# Altium schematic symbol library 2019-05-13_15-35-56.SchLib: 2 symbols
Pins are listed as number, name and electrical type; pins without a type are passive.

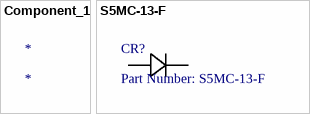
[diagram p0: symbols Component_1 to S5MC-13-F]

## Component_1
designator *

## S5MC-13-F
designator CR?, comment Part Number: S5MC-13-F
No Description Available; Vendor: Diodes Inc; Built_By: EMA_UL_Team; Type: DEV; Manufacturer_Part_Number: S5MC-13-F; Copyright: Copyright (C) 2018 Accelerated Designs. All rights reserved; RefDes: RefDes; Value: Value
footprint SMC
pins: 1, 2